# EAGLE library part PAA5160E1-Q (library Optical_Tracking_Odometry_Sensor)
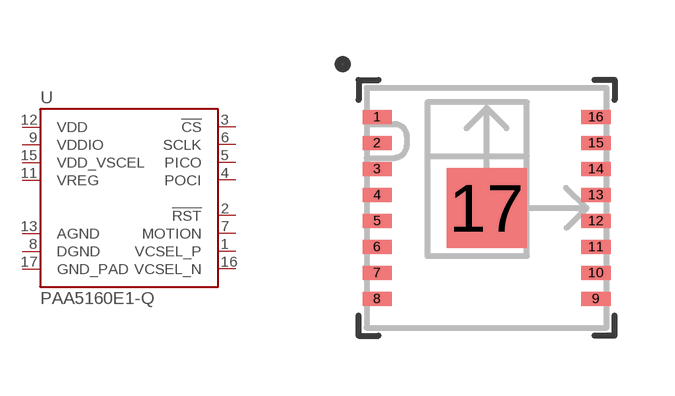
[diagram p0: symbol with the pads of PAA5160E1-Q; footprint PAA5160E1-Q]

Designator prefix U

## PAA5160E1-Q (PROD_ID: IC-21320)  [PAA5160E1-Q]
1  VCSEL_P
2  !RST!
3  !CS!
4  POCI
5  PICO
6  SCLK
7  MOTION
8  DGND
9  VDDIO
11  VREG
12  VDD
13  AGND
15  VDD_VSCEL
16  VCSEL_N
17  GND_PAD

## Footprint PAA5160E1-Q (pad centres in mm)
smd 0.73 x 0.35: 1 -2.735,2.275; 2 -2.735,1.625; 3 -2.735,0.975; 4 -2.735,0.325; 5 -2.735,-0.325; 6 -2.735,-0.975; 7 -2.735,-1.625; 8 -2.735,-2.275; 9 2.735,-2.275; 10 2.735,-1.625; 11 2.735,-0.975; 12 2.735,-0.325; 13 2.735,0.325; 14 2.735,0.975; 15 2.735,1.625; 16 2.735,2.275
smd 2 x 2: 17 0,0